# Altium schematic symbol library 48V to BOB.SCHLIB: 26 symbols
Pins are listed as number, name and electrical type; pins without a type are passive.

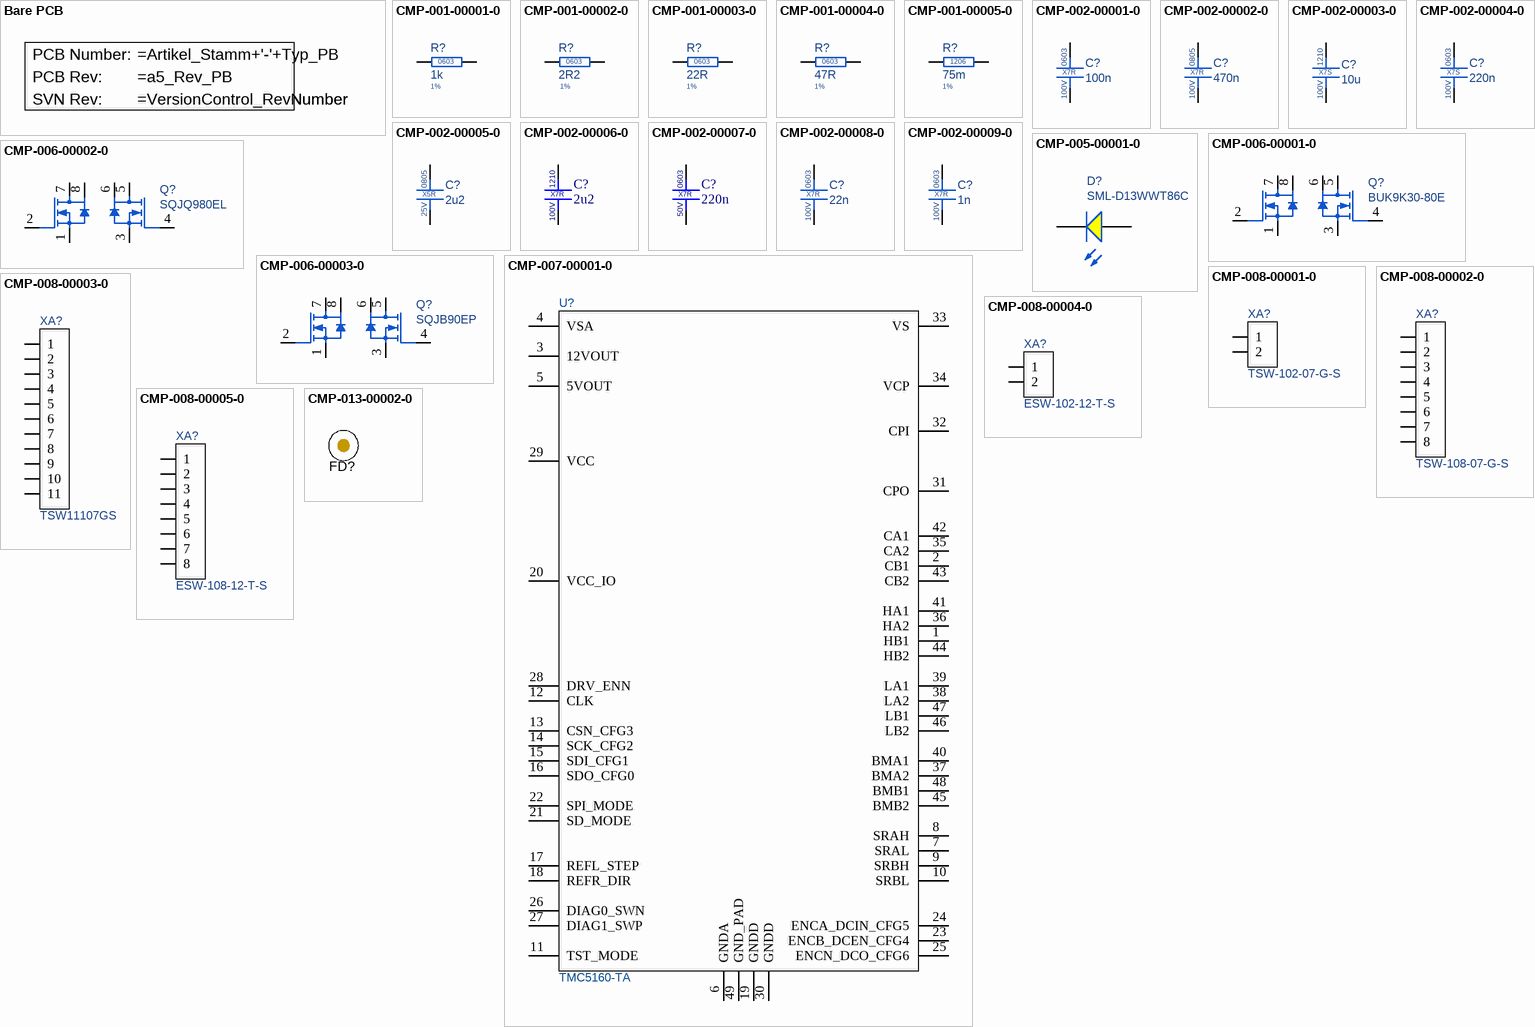
[diagram p0: symbols Bare PCB to CMP-013-00002-0]

## Bare PCB
designator =Artikel_Stamm+'-'+Typ_PB, comment Printed Circuit Board  (value not drawn)  (mechanical)
Bare PCB; Manufacturer: Any; CompType: PCB; PartNumber: =Artikel_Stamm+'-'+Typ_PB; MountType: N/A; Key: PCB; PartValue: =Artikel_Stamm+'-'+Typ_PB
1 alternate drawing of the same symbol
text: PCB Number:; PCB Rev:; SVN Rev:

## CMP-001-00001-0
designator R?, comment 1k  Tolerance: 1%  CaseName: 0603
Res Thick Film SMD 0603 1kOhm 75V 1% 0.1W 100ppm/°C AEC-Q200; Part Number: 01-0835; Part Description: 0603 1k 75V 0.1W 1% 100ppm AEC-Q200; Manufacturer 1: Panasonic; Manufacturer Part Number 1: ERJ-3EKF1001V; LatestRevision Note: Initial; Power: 100m; Tmin: -55; Tmax: 155; AECQ: True; Order Number: 667-ERJ-3EKF1001V; Type1: RES; Type2: Thickfilm; PartValue: 1k; Voltage: 75V; ROHS: True; ComponentLink1Description: Datasheet; ComponentLink1URL: https://industrial.panasonic.com/cdbs/www-data/pdf/RDA0000/AOA0000C304.pdf; LatestRevision Date: 27.03.2018; Author: ISC; Distributor: Mouser; Price: 0.21
footprint RESC1608X55X25NL10T15 (Chip Resistor, 2-Leads, Body 1.70x0.90mm, IPC Medium Density)
pins: 1, 2

## CMP-001-00002-0
designator R?, comment 2R2  Tolerance: 1%  CaseName: 0603
Res Thick Film SMD 0603 2.2Ohm 75V 1% 0.1W 100ppm/°C; Part Number: 01-0049; Part Description: 0603 2E2 75V 0.1W 1% 100ppm AECQ-200; Manufacturer 1: Vishay; Manufacturer Part Number 1: CRCW06032R20FK; LatestRevision Note: Checked; Power: 100m; Tmin: -55; Tmax: 155; AECQ: True; Checked: CEG; Order Number: 71-CRCW0603-2.2-E3; Type1: RES; Type2: Thickfilm; PartValue: 2R2; Voltage: 75V; ROHS: True; ComponentLink1Description: Datasheet; ComponentLink1URL: http://www.vishay.com/docs/20035/dcrcwe3.pdf; LatestRevision Date: 22.01.2019; Author: YLU; Distributor: Mouser; Price: 0.169
footprint RESC1608X55X25NL10T15 (Chip Resistor, 2-Leads, Body 1.70x0.90mm, IPC Medium Density)
pins: 1, 2

## CMP-001-00003-0
designator R?, comment 22R  Tolerance: 1%  CaseName: 0603
Res Thick Film SMD 0603 22Ohm 75V 1% 0.1W 100ppm/°C; Part Number: 01-0831; Part Description: 0603 22E 75V 0.1W 1% 100ppm AEC-Q200; Manufacturer 1: Panasonic; Manufacturer Part Number 1: ERJ-3EKF22R0V; LatestRevision Note: Initial; Power: 100m; Tmin: -55; Tmax: 155; AECQ: True; Order Number: 667-ERJ-3EKF22R0V; Type1: RES; Type2: Thickfilm; PartValue: 22R; Voltage: 75V; ROHS: True; ComponentLink1Description: Datasheet; ComponentLink1URL: https://industrial.panasonic.com/cdbs/www-data/pdf/RDA0000/AOA0000C304.pdf; LatestRevision Date: 19.03.2018; Author: ISC; Distributor: Mouser; Price: 0.21
footprint RESC1608X55X25NL10T15 (Chip Resistor, 2-Leads, Body 1.70x0.90mm, IPC Medium Density)
pins: 1, 2

## CMP-001-00004-0
designator R?, comment 47R  Tolerance: 1%  CaseName: 0603
Res Thick Film SMD 0603 47Ohm 75V 1% 0.1W 100ppm/°C AEC-Q200; Part Number: 01-0833; Part Description: 0603 47E 75V 0.1W 1% 100ppm AEC-Q200; Manufacturer 1: Panasonic; Manufacturer Part Number 1: ERJ-3EKF47R0V; LatestRevision Note: Initial; Power: 100m; Tmin: -55; Tmax: 155; AECQ: True; Order Number: 667-ERJ-3EKF47R0V; Order Number 2: P47.0HCT-ND; Type1: RES; Type2: Thickfilm; PartValue: 47R; Voltage: 75V; ROHS: True; ComponentLink1Description: Datasheet; ComponentLink1URL: https://industrial.panasonic.com/cdbs/www-data/pdf/RDA0000/AOA0000C304.pdf; LatestRevision Date: 26.03.2018; Author: LME; Distributor: Mouser; Price: 0.09; Distributor 2: Digikey
footprint RESC1608X55X25NL10T15 (Chip Resistor, 2-Leads, Body 1.70x0.90mm, IPC Medium Density)
pins: 1, 2

## CMP-001-00005-0
designator R?, comment 75m  Tolerance: 1%  CaseName: 1206
Res Thick Film SMD 0603 75mOhm 75V 1% 1W 100ppm/°C AEC-Q200; Part Number: 01-1044; Part Description: Shunt 1206 75m 200V 1W 1% AEC-Q200; Manufacturer 1: Panasonic; Manufacturer Part Number 1: ERJ-8BWFR075V; LatestRevision Note: Initial; Type2: Shunt; Voltage: 200V; Tmin: -55; Tmax: 155; AECQ: True; Order Number: 667-ERJ-8BWFR075V; Type1: RES; PartValue: 75m; Power: 1W; ROHS: True; ComponentLink1Description: Datasheet; ComponentLink1URL: https://industrial.panasonic.com/cdbs/www-data/pdf/RDN0000/AOA0000C313.pdf; LatestRevision Date: 06.03.2019; Author: LME; Distributor: Mouser
footprint RESC3216X60X45NL15T20 (Chip Resistor, 2-Leads, Body 3.3x1.75mm, IPC Medium Density)
pins: 1, 2

## CMP-002-00001-0
designator C?, comment 100n  CaseName: 0603  Type3: X7R  Voltage: 100V
Cap Ceramic MLCC SMD 0603 100nF 100V 10% X7R; Part Description: Ceramic Capacitors MLCC - SMD/SMT 0603 100VDC 0.1uF 10% X7R MID HIGH VOL; Manufacturer 1: Taiyo Yuden; Manufacturer Part Number 1: HMK107B7104KA-T; AECQ: True; Order Number: 963-HMK107B7104KA-T; Tmin: -55; Tmax: 125; Type1: CAP; Type2: Ceramic; PartValue: 100n; Tolerance: 10%; ROHS: True; ComponentLink1Description: Datasheet; ComponentLink1URL: http://datasheets.avx.com/AutoMLCC.pdf; Author: Lerch; Distributor: Mouser
footprint CAPC1608X90X40NL10T20 (Chip Capacitor, 2-Leads, Body 1.70x0.90mm, IPC Medium Density)
pins: 1, 2

## CMP-002-00002-0
designator C?, comment 470n  CaseName: 0805  Type3: X7R  Voltage: 100V
Cap Ceramic MLCC SMD 0805 470nF 100V 10% X7R Soft Termination; Part Number: 02-0272; Part Description: Ceramic MLCC 470nF 100V X7R 10% flexiterm; Manufacturer 1: AVX; Manufacturer Part Number 1: 08051C474KAZ2A; LatestRevision Note: Initial; Tolerance: 10; AECQ: False; Order Number: 581-08051C474KAZ2A; Order Number 2: 478-6355-1-ND; Type1: CAP; Type2: Ceramic; PartValue: 470n; ROHS: True; ComponentLink1Description: Datasheet; ComponentLink1URL: http://www.avx.com/docs/Catalogs/flexiterm.pdf; LatestRevision Date: 22.06.2012; Author: SSC; Distributor: Mouser; Price: 0.56; Distributor 2: Digikey
footprint CAPC2013X135X45NL10T25 (Chip Capacitor, 2-Leads, Body 2.10x1.35mm, IPC Medium Density)
pins: 1, 2

## CMP-002-00003-0
designator C?, comment 10u  CaseName: 1210  Type3: X7S  Voltage: 100V
Cap Ceramic MLCC SMD 1210 10uF 100V 10% X7S; Part Description: MLCC - SMD/SMT 100Vdc 10uF 10% 1210; Manufacturer 1: muRata; Manufacturer Part Number 1: GRM32EC72A106KE05L; AECQ: True; Order Number: 81-GRM32EC72A106KE05; Tmin: -55; Tmax: 125; Type1: CAP; Type2: Ceramic; PartValue: 10u; Tolerance: 10%; ROHS: True; Author: Lerch; Distributor: Mouser; ComponentLink1Description: New link; ComponentLink1URL: https://www.trinamic.com/fileadmin/assets/Products/ICs_Documents/TMC5160A_Datasheet_Rev1.15.pdf
footprint CAPC3225X270X30NL30 (Chip Capacitor, 2-Leads, Body 3.5x2.7mm, IPC Medium Density)
pins: 1, 2

## CMP-002-00004-0
designator C?, comment 220n  CaseName: 0603  Type3: X7S  Voltage: 100V
Cap Ceramic MLCC SMD 0603 220nF 100V 10% X7S AEC-Q200; Part Description: Keramikschichten MLCC - SMD/SMT 0603 100VDC 0.22uFA 10% MID HI AEC-Q200; Manufacturer 1: Taiyo Yuden; Manufacturer Part Number 1: HMK107C7224KAHTE; AECQ: True; Order Number: 963-HMK107C7224KAHTE; Tmin: -55; Tmax: 125; Type1: CAP; Type2: Ceramic; PartValue: 220n; Tolerance: 10%; ROHS: True; Author: Lerch; Distributor: Mouser
footprint CAPC1608X90X40NL10T20 (Chip Capacitor, 2-Leads, Body 1.70x0.90mm, IPC Medium Density)
pins: 1, 2

## CMP-002-00005-0
designator C?, comment 2u2  CaseName: 0805  Type3: X5R  Voltage: 25V
Cap Ceramic MLCC SMD 0805 2.2uF 25V 10% X5R; Part Number: 02-0245; Part Description: Ceramic 0805 2.2uF 25V X5R; Manufacturer 1: TDK; Manufacturer Part Number 1: C2012X5R1E225KT; LatestRevision Note: Initial; Tolerance: 10; AECQ: False; Order Number: 810-C2012X5R1E225K; Type1: CAP; Type2: Ceramic; PartValue: 2u2; ROHS: True; ComponentLink1Description: Datasheet; ComponentLink1URL: http://www.tdk.co.jp/tefe02/e412_c.pdf; LatestRevision Date: 21.07.2011; Author: RLE; Distributor: Mouser; Price: 0.082
footprint CAPC2013X135X45NL10T25 (Chip Capacitor, 2-Leads, Body 2.10x1.35mm, IPC Medium Density)
pins: 1, 2

## CMP-002-00006-0
designator C?, comment 2u2  CaseName: 1210  Type3: X7R  Voltage: 100V
Cap Ceramic MLCC SMD 1210 2.2uF 100V 10% X7R; Part Number: 02-0470; Part Description: Ceramic 1210 2.2uF 100V 10%, X7R; Manufacturer 1: Taiyo Yuden; Manufacturer Part Number 1: HMK325B7225KN-T; LatestRevision Note: Initial; Tolerance: 10; Tmin: -55; Tmax: 125; AECQ: False; Order Number: 963-HMK325B7225KN-T; Order Number 2: 581-12101C225KAT4A; Type1: CAP; Type2: Ceramic; PartValue: 2u2; ROHS: True; ComponentLink1Description: Datasheet; ComponentLink1URL: https://www.mouser.ch/datasheet/2/396/mlcc02_e-1307760.pdf; LatestRevision Date: 10.09.2019; Author: MRA; Manufacturer 2: AVX; Manufacturer Part Number 2: 12101C225KAT4A; Distributor: Mouser; Price: 0.586; Distributor 2: Mouser
footprint CAPC3225X270X30NL30 (Chip Capacitor, 2-Leads, Body 3.5x2.7mm, IPC Medium Density)
pins: 1, 1, 2, 2

## CMP-002-00007-0
designator C?, comment 220n  CaseName: 0603  Type3: X7R  Voltage: 50V
Cap Ceramic MLCC SMD 0603 220nF 50V 10% X7R; Part Number: 02-0450; Part Description: Ceramic 0603 220n 50VDC X7R Soft Termination, AEC-Q200; Manufacturer 1: muRata; Manufacturer Part Number 1: GCJ188R71H224KA01D; LatestRevision Note: Checked; Tolerance: 10; AECQ: True; Order Number: 81-GCJ188R71H224KA1D; Order Number 2: 810-CGA3E3X7R1H224KA; Tmin: -55; Tmax: 125; Checked: YLU; Type1: CAP; Type2: Ceramic; PartValue: 220n; ROHS: True; ComponentLink1Description: Datasheet; ComponentLink1URL: https://search.murata.co.jp/Ceramy/image/img/A01X/G101/ENG/GCJ188R71H224KA01-01.pdf; LatestRevision Date: 11.10.2018; Author: ISC; Distributor: Mouser; Price: 0.31; Distributor 2: Mouser; Manufacturer 2: TDK; Manufacturer Part Number 2: CGA3E3X7R1H224K080AE
footprint CAPC1608X90X40NL10T20 (Chip Capacitor, 2-Leads, Body 1.70x0.90mm, IPC Medium Density)
pins: 1, 2

## CMP-002-00008-0
designator C?, comment 22n  CaseName: 0603  Type3: X7R  Voltage: 100V
Cap Ceramic MLCC SMD 0603 22nF 100V 10% X7R AEC-Q200; Part Description: Multilayer Ceramic Capacitors MLCC - SMD/SMT 0603 100VDC 0.022uF 10% X7R AEC-Q200; Manufacturer 1: Taiyo Yuden; Manufacturer Part Number 1: HMK107B7223KAHT; AECQ: True; Order Number: 963-HMK107B7223KAHT; Tmin: -55; Tmax: 125; Type1: CAP; Type2: Ceramic; PartValue: 22n; Tolerance: 10%; ROHS: True; Author: Lerch; Distributor: Mouser
footprint CAPC1608X90X40NL10T20 (Chip Capacitor, 2-Leads, Body 1.70x0.90mm, IPC Medium Density)
pins: 1, 2

## CMP-002-00009-0
designator C?, comment 1n  CaseName: 0603  Type3: X7R  Voltage: 100V
Cap Ceramic MLCC SMD 0603 1nF 100V 10% X7R AEC-Q200; Manufacturer 1: TDK; Manufacturer Part Number 1: CGA3E2X7R2A102K080AA; AECQ: True; Order Number: 810-CGA3E2X7R2A102K; Tmin: -55; Tmax: 125; Type1: CAP; Type2: Ceramic; PartValue: 1n; Tolerance: 10%; ROHS: True; Part Description: Cap Ceramic MLCC SMD 0603 1nF 100V 10% X7R AEC-Q200; Author: Lerch; Distributor: Mouser
footprint CAPC1608X90X40NL10T20 (Chip Capacitor, 2-Leads, Body 1.70x0.90mm, IPC Medium Density)
pins: 1, 2

## CMP-005-00001-0
designator D?, comment SML-D13WWT86C
Led Yellow SMD 0603 30mA 2.1V; Manufacturer: ROHM; Max Power Dissipation: 75mW; Lens Style: Diffused; Luminous Intensity: 110mcd; Order Number: 755-SML-D13WWT86C; Datasheet URL: https://fscdn.rohm.com/en/products/databook/datasheet/opto/led/chip_mono/sml-d13x(c)-e.pdf; Colour: Yellow; CaseName: 0603; Min Operating Temperature: -40°C; Forward Voltage: 2.1V; Nominal Vf: 2.1V; Illumination Colour: Yellow; Forward Current: 30mA; Pins: 2; Package Reference: 0603; Manufacturer URL: https://www.rohm.de/; Power: 75mW; Max Operating Temperature: 100°C; Package Description: 2-Pin Surface Mount Device, Body 1.6 x 0.8 mm; Mounting Technology: SM; RoHS Compliant: True; Manufacturer Part Number 1: SML-D13WWT86C; Component Type: LED; PartValue: SML-D13WWT86C; Manufacturer 1: RoHm; Distributor: Mouser
footprint DIOC1608X55X25NL10T15 (Chip Diode, 2-Leads, Body 1.70x0.90mm, IPC Medium Density)
pins: 1 K, 2 A

## CMP-006-00001-0
designator Q?, comment BUK9K30-80E
Dual Logic Level N-channel MOSFET SMD 80V 30.0mOhm 17A / PowerPak-SO8 Dual (SOT-1205 / LFPAK56D) AEC-Q101; Part Description: 80V, 17A, 30mOhm Dual Logic level N-channel MOSFET; Manufacturer 1: Nexperia; Manufacturer Part Number 1: BUK9K30-80EX; Type1: NMOS; Type2: Power; AECQ: False; Order Number: 771-BUK9K30-80EX; PartValue: BUK9K30-80E; Voltage: 80V; Current: 17A; CaseName: LFPAK56D; ROHS: True; ComponentLink1Description: Datasheet; ComponentLink1URL: https://assets.nexperia.com/documents/data-sheet/BUK9K30-80E.pdf; LatestRevision Date: 24.10.2021; Author: Lerch; Distributor: Mouser
footprint LFPAK56D (LFPAK56D (SOT1205), adapted to have the same size as a SO8)
footprint PowerPAK-SO8_Dual (PowerPAK SO-8L Dual (SQJ500AEP), PowerFLAT 5x6 Dual (STL40C30H3LL), PDFN56 Dual (TSM6502CR), derrived from Universal Power-SO8 (OnsemiApplication Note AND9137/D))
pins: 1 S1, 2 G1, 3 S2, 4 G2, 5 D2, 6 D2, 7 D1, 8 D1

## CMP-006-00002-0
designator Q?, comment SQJQ980EL
Dual Logic Level N-channel MOSFET SMD 80V 13.5mOhm 36A / PowerPak-SO8 Dual (PowerPAK® 8 x 8 Dual) AEC-Q101; Part Description: 80V, 36A, 13.5mOhm Dual Logic level N-channel MOSFET; Manufacturer 1: Vishay; Manufacturer Part Number 1: SQJQ980EL-T1_GE3; Type1: NMOS; Type2: Power; AECQ: False; Order Number: 78-SQJQ980EL-T1_GE3; PartValue: SQJQ980EL; Voltage: 80V; Current: 36A; CaseName: PowerPAK® SO-8L Dual; ROHS: True; ComponentLink1Description: Datasheet; ComponentLink1URL: https://assets.nexperia.com/documents/data-sheet/BUK9K30-80E.pdf; LatestRevision Date: 24.10.2021; Author: Lerch; Distributor: Mouser
pins: 1 S1, 2 G1, 3 S2, 4 G2, 5 D2, 6 D2, 7 D1, 8 D1

## CMP-006-00003-0
designator Q?, comment SQJB90EP
Dual Logic Level N-channel MOSFET SMD 80V 21.5mOhm 30A / PowerPak-SO8 Dual (PowerPAK® 8 x 8 Dual) AEC-Q101; Part Description: 80V, 30A, 21.5mOhm Dual Logic level N-channel MOSFET; Manufacturer 1: Vishay; Manufacturer Part Number 1: SQJB90EP-T1_GE3; Type1: NMOS; Type2: Power; AECQ: False; Order Number: 78-SQJB90EP-T1_GE3; PartValue: SQJB90EP; Voltage: 80V; Current: 30A; CaseName: PowerPAK® SO-8L Dua; ROHS: True; ComponentLink1Description: Datasheet; ComponentLink1URL: https://assets.nexperia.com/documents/data-sheet/BUK9K30-80E.pdf; LatestRevision Date: 24.10.2021; Author: Lerch; Distributor: Mouser
pins: 1 S1, 2 G1, 3 S2, 4 G2, 5 D2, 6 D2, 7 D1, 8 D1

## CMP-007-00001-0
designator U?, comment TMC5160-TA
Universal high voltage controller/driver for two-phase bipolar stepper motor.; Manufacturer 1: TRINAMIC; Order Number: 700-TMC5160ATA; Geometry.Height: 1,2mm; Distributor: Mouser; PartValue: TMC5160-TA; Manufacturer Part Number 1: TMC5160-TA; MF: TRINAMIC; ComponentLink1Description: Footprint; ComponentLink1URL: https://www.trinamic.com/fileadmin/assets/Company/Quality/RoHS_ICs/TMC5160_RoHS.pdf; ComponentLink2Description: Datasheet; ComponentLink2URL: https://www.trinamic.com/fileadmin/assets/Products/ICs_Documents/TMC5160A_Datasheet_Rev1.14.pdf; CaseName: TQFP48-EP
footprint TSQFP50P900X900X120_HS-49L (TQFP48-EP for Trinamic TMC5160)
footprint TSQFP50P900X900X120_HS-49 (TQFP48-EP for Trinamic TMC5160)
pins: 1 HB1, 2 CB1, 3 12VOUT, 4 VSA, 5 5VOUT, 6 GNDA, 7 SRAL, 8 SRAH, 9 SRBH, 10 SRBL, 11 TST_MODE, 12 CLK, 13 CSN_CFG3, 14 SCK_CFG2, 15 SDI_CFG1, 16 SDO_CFG0, 17 REFL_STEP, 18 REFR_DIR, 19 GNDD, 20 VCC_IO, 21 SD_MODE, 22 SPI_MODE, 23 ENCB_DCEN_CFG4, 24 ENCA_DCIN_CFG5, 25 ENCN_DCO_CFG6, 26 DIAG0_SWN, 27 DIAG1_SWP, 28 DRV_ENN, 29 VCC, 30 GNDD, 31 CPO, 32 CPI, 33 VS, 34 VCP, 35 CA2, 36 HA2, 37 BMA2, 38 LA2, 39 LA1, 40 BMA1, 41 HA1, 42 CA1, 43 CB2, 44 HB2, 45 BMB2, 46 LB2, 47 LB1, 48 BMB1, 49 GND_PAD

## CMP-008-00001-0
designator XA?, comment TSW-102-07-G-S
Con Header PCB SMD 2Pos 2.54mm; Part Description: 2 Pin, PCB Header Strips, 2.54mm (0.100") pitch; Manufacturer 1: Samtec; LatestRevision Note: Initial; Voltage: 250V; Current: 3A; AECQ: False; Order Number: 200-TSW10207GS; System: Connector; Type1: CON; Type2: 2.54mm; PartValue: TSW-102-07-G-S; ROHS: True; ComponentLink1Description: Datasheet; ComponentLink1URL: https://suddendocs.samtec.com/catalog_english/tsw_th.pdf; Author: Lerch; Manufacturer Part Number 1: TSW-102-07-G-S; Distributor: Mouser
footprint SAMTEC_TSW-102-07-G-S (2.54mm Pitch PCB Header, Single Row, Vertical, 2 Circuits)
pins: 1, 2

## CMP-008-00002-0
designator XA?, comment TSW-108-07-G-S
Con Header PCB SMD 8Pos 2.54mm; Part Number: 13-0359; Part Description: 8 Pin PCB Header Strips, 2.54mm (0.100") pitch; Manufacturer 1: Samtec; LatestRevision Note: Initial; Voltage: 250V; Current: 3A; AECQ: False; Order Number: 200-TSW10807GS; System: Connector; Type1: CON; Type2: 2.54mm; PartValue: TSW-108-07-G-S; ROHS: True; ComponentLink1Description: Datasheet; ComponentLink1URL: https://suddendocs.samtec.com/catalog_english/tsw_th.pdf; Author: Lerch; Manufacturer Part Number 1: TSW-108-07-G-S; Distributor: Mouser
footprint SAMTEC_TSW-108-07-G-S (2.54mm Pitch PCB Header, Single Row, Vertical, 8 Circuits)
pins: 1, 2, 3, 4, 5, 6, 7, 8

## CMP-008-00003-0
designator XA?, comment TSW11107GS
Con Header PCB SMD 11Pos 2.54mm; Part Description: 11 Pin PCB Header Strips, 2.54mm (0.100") pitch; Manufacturer 1: Samtec; Manufacturer Part Number 1: TSW-111-07-G-S; LatestRevision Note: Initial; Voltage: 250V; Current: 3A; AECQ: False; Order Number: 200-TSW11107GS; System: Connector; Type1: CON; Type2: 2.54mm; PartValue: TSW11107GS; ROHS: True; ComponentLink1Description: Datasheet; ComponentLink1URL: https://suddendocs.samtec.com/catalog_english/tsw_th.pdf; Author: Lerch; Distributor: Mouser
footprint SAMTEC_TSW-111-07-G-S (2.54mm Pitch PCB Header, Single Row, Vertical, 11 Circuits)
pins: 1, 2, 3, 4, 5, 6, 7, 8, 9, 10, 11

## CMP-008-00004-0
designator XA?, comment ESW-102-12-T-S
Con Socket PCB SMD 2Pos 2.54mm; Part Description: 2 Pin, PCB Socket Strips, 2.54mm (0.100") pitch; Manufacturer 1: Samtec; LatestRevision Note: Initial; Voltage: 250V; Current: 3A; AECQ: False; Order Number: 200-ESW10212TS; System: Connector; Type1: CON; Type2: 2.54mm; PartValue: ESW-102-12-T-S; ROHS: True; ComponentLink1Description: Datasheet; ComponentLink1URL: https://suddendocs.samtec.com/catalog_english/esw_th.pdf; Author: Lerch; Manufacturer Part Number 1: ESW-102-12-T-S; Distributor: Mouser
footprint SAMTEC_ESW-102-12-G-S (2.54mm Pitch PCB Socket, Single Row, Vertical, 2 Circuits)
pins: 1, 2

## CMP-008-00005-0
designator XA?, comment ESW-108-12-T-S
Con Socket PCB SMD 8Pos 2.54mm; Part Number: 13-0359; Part Description: 8 Pin PCB Socket Strips, 2.54mm (0.100") pitch; Manufacturer 1: Samtec; Manufacturer Part Number 1: TSW-108-07-G-S; LatestRevision Note: Initial; Voltage: 250V; Current: 3A; AECQ: False; Order Number: 200-ESW10812TS; System: Connector; Type1: CON; Type2: 2.54mm; PartValue: ESW-108-12-T-S; ROHS: True; ComponentLink1Description: Datasheet; ComponentLink1URL: https://suddendocs.samtec.com/catalog_english/esw_th.pdf; Author: Lerch; Distributor: Mouser
footprint SAMTEC_ESW-108-12-T-S (2.54mm Pitch PCB Socket Single Row, Vertical, 8 Circuits)
pins: 1, 2, 3, 4, 5, 6, 7, 8

## CMP-013-00002-0
designator FD?, comment Fiducial Mark  (value not drawn)  (no BOM)
Fiducial mark.  There is nothing to buy or mount.; Manufacturer: N/A; MountType: N/A; PackageReference: Fiducial; PartNumber: N/A; ClassName: FiducialMark; PartValue: Fiducial Mark
footprint Fiducial10-30
footprint Fiducial10-20
footprint Fiducial15-30
footprint Fiducial20-40
footprint Fiducial6.4-20
footprint Fiducial (1mm Dot diameter, 2mm Ring Diameter)